# Altium footprint library HMC5883L.PcbLib: 2 footprints
Each footprint in its own frame and in the unit in brackets; x right, y up, seen from the top. Pads: shape width x height; smd on the part's side, far side on the other; paste and mask are expansions set on the pad; w line width, h text height; cw(c..) or ccw(c..) is an arc to the next point about the centre after c.
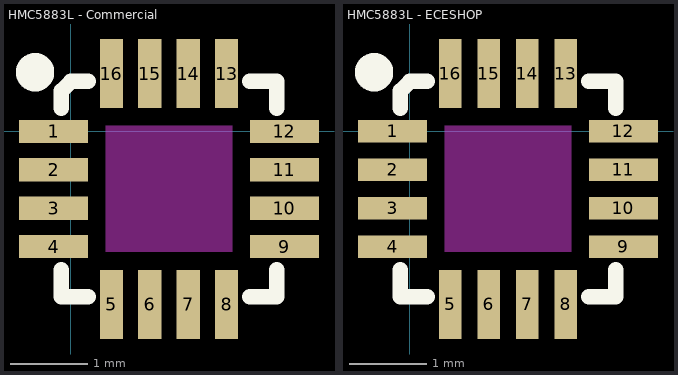
[diagram p0: the footprints below, top view; thin cyan lines are the x and y axes]

## HMC5883L - Commercial [mm]
pads (16):
  rect 0.9x0.3 smd: 1(-0.225,0) 2(-0.225,-0.5) 3(-0.225,-1) 4(-0.225,-1.5) 9(2.775,-1.5) 10(2.775,-1) 11(2.775,-0.5) 12(2.775,0)
  rect 0.3x0.9 smd: 5(0.525,-2.25) 6(1.025,-2.25) 7(1.525,-2.25) 8(2.025,-2.25) 13(2.025,0.75) 14(1.525,0.75) 15(1.025,0.75) 16(0.525,0.75)
Top Overlay:
  circle w0.3: c-0.467,0.768 r0.1
  lines w0.2: -0.125,-1.8 -0.125,-2.15 0.225,-2.15 ; -0.125,0.3 -0.125,0.525 0,0.65 0.225,0.65 ; 2.325,-2.15 2.675,-2.15 2.675,-1.8 ; 2.325,0.65 2.675,0.65 2.675,0.3
Keep-Out Layer:
  rectangle: 0.452,-1.572 2.099,0.075

## HMC5883L - ECESHOP [mm]
pads (16):
  rect 0.9x0.29 smd: 1(-0.225,0) 2(-0.225,-0.5) 3(-0.225,-1) 4(-0.225,-1.5) 9(2.775,-1.5) 10(2.775,-1) 11(2.775,-0.5) 12(2.775,0)
  rect 0.29x0.9 smd: 5(0.525,-2.25) 6(1.025,-2.25) 7(1.525,-2.25) 8(2.025,-2.25) 13(2.025,0.75) 14(1.525,0.75) 15(1.025,0.75) 16(0.525,0.75)
Top Overlay:
  circle w0.3: c-0.467,0.768 r0.1
  lines w0.2: -0.125,-1.8 -0.125,-2.15 0.225,-2.15 ; -0.125,0.3 -0.125,0.525 0,0.65 0.225,0.65 ; 2.325,-2.15 2.675,-2.15 2.675,-1.8 ; 2.325,0.65 2.675,0.65 2.675,0.3
Keep-Out Layer:
  rectangle: 0.452,-1.572 2.099,0.075